# EAGLE library part 750871830 (library wurth_electronics_midcom_inc_v2-1)
Package Style: EE16/8/5 Mounting: THT Pins: 9 pins Bobbin: 070-5280 Best pinouts for production vary per application. Please contact Wurth Electronics Midcom, Inc. for assistance with your custom design. Website: Wurth Electronics Midcom <http://www.we-online.com/midcom> Contact us Wurth Electronics Midcom, Inc. 121 Airport Dr. Watertown, SD 57201 Phone: (605) 886-4385 Fax: (605) 886-4486 E-Mail: midcom@we-online.com
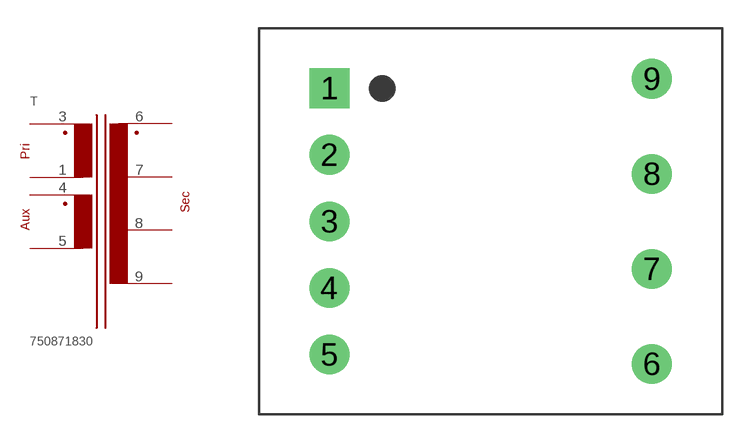
[diagram p356: symbol with the pads of EE16/8/5_THT_H_9PIN_(5280); footprint EE16/8/5_THT_H_9PIN_(5280)]

Designator prefix T

## 750871830  [EE16/8/5_THT_H_9PIN_(5280)]
1  1  pas
3  3  pas
4  4  pas
5  5  pas
6  6  pas
7  7  pas
8  8  pas
9  9  pas

## Footprint EE16/8/5_THT_H_9PIN_(5280) (pad centres in mm)
Package Style: EE16/8/5 Mounting: THT Pins: 9 Bobbin: 070-5280
drill 1.397 square: 1 -8.496,7.01
drill 1.397: 2 -8.496,3.505; 3 -8.496,0; 4 -8.496,-3.505; 5 -8.496,-7.01; 6 8.496,-7.506; 7 8.496,-2.502; 8 8.496,2.502; 9 8.496,7.506